# Altium footprint library DYS080_V5.PcbLib: 35 footprints (part 2 of 3)
Each footprint in its own frame and in the unit in brackets; x right, y up, seen from the top. Pads: shape width x height; smd on the part's side, far side on the other; paste and mask are expansions set on the pad; w line width, h text height; cw(c..) or ccw(c..) is an arc to the next point about the centre after c.
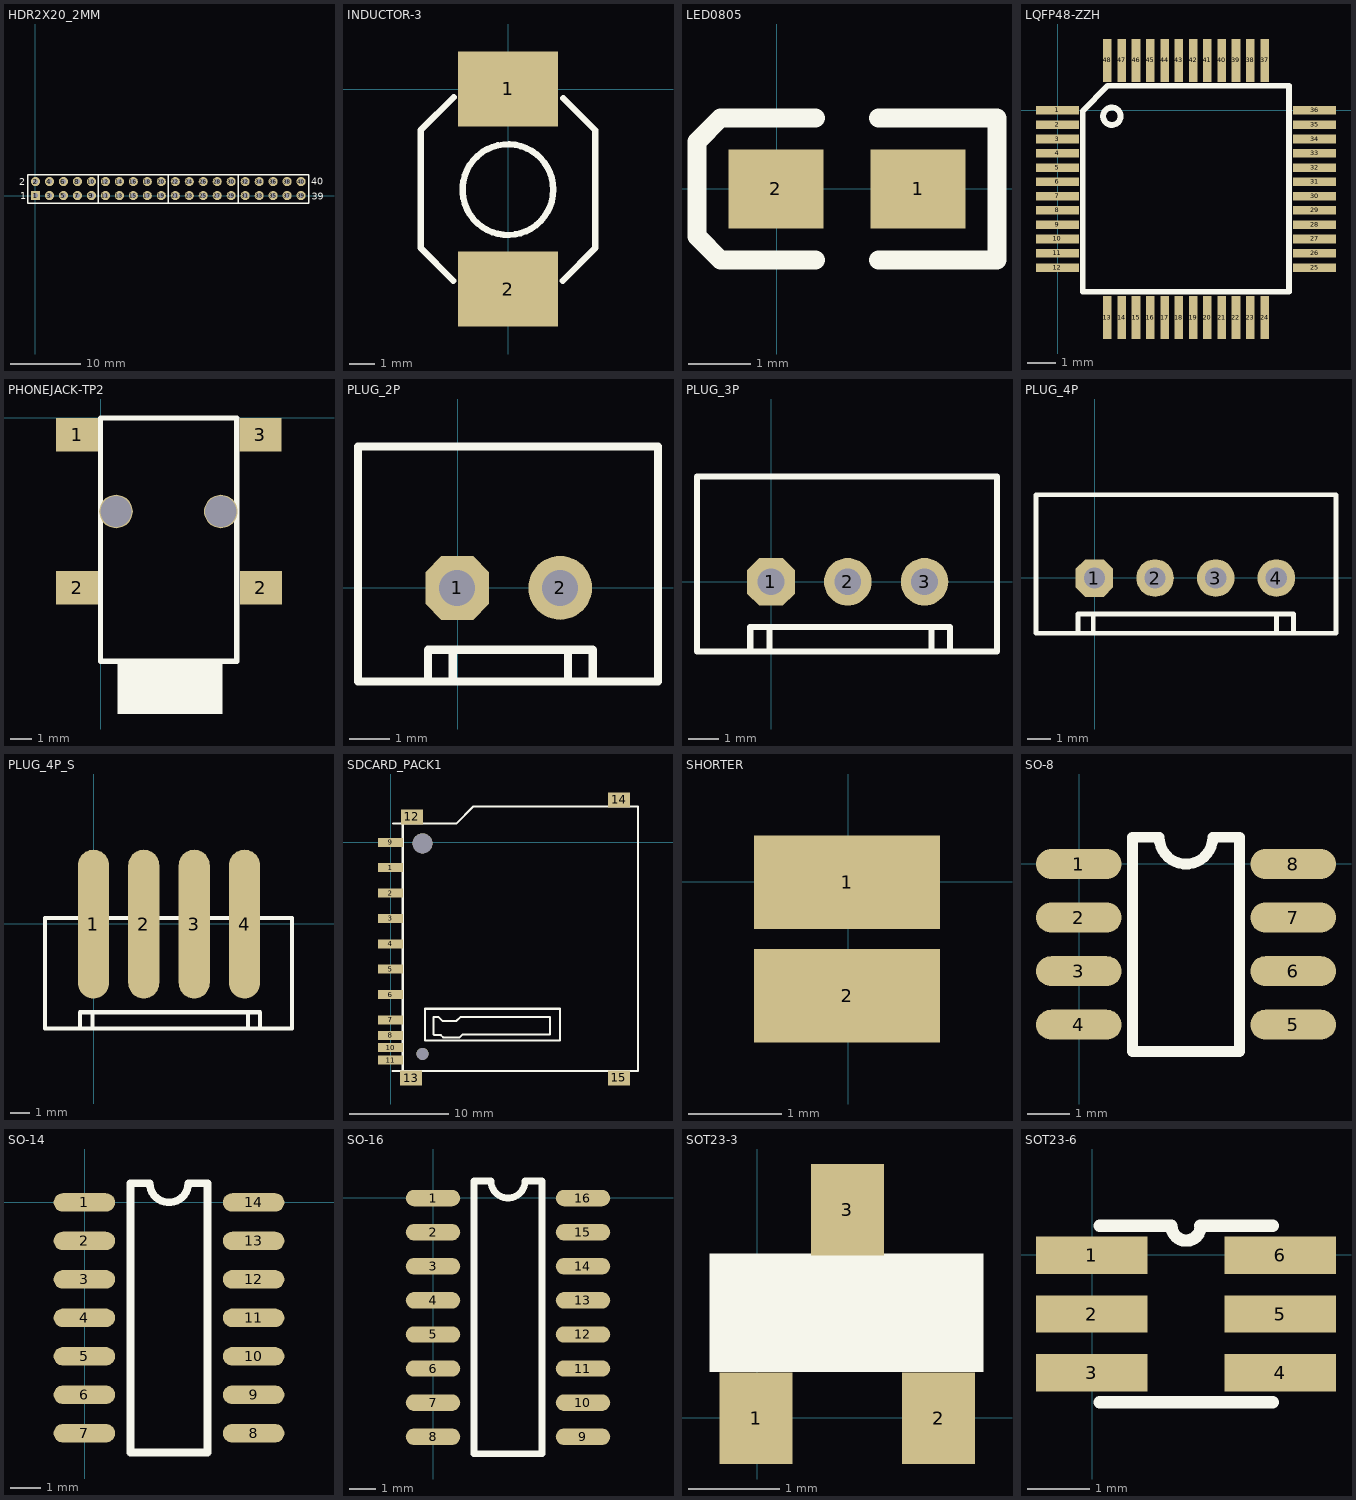
[diagram p1: the footprints below, top view; thin cyan lines are the x and y axes]

## HDR2X20_2MM [mm]
pads (40):
  rect 1.3x1.3 hole 0.75: 1(0.01,-0.005)
  round 1.3 hole 0.75: 2(0.01,1.995) 3(2.01,-0.005) 4(2.01,1.995) 5(4.01,-0.005) 6(4.01,1.995) 7(6.01,-0.005) 8(6.01,1.995) 9(8.01,-0.005) 10(8.01,1.995) 11(10.01,-0.005) 12(10.01,1.995) 13(12.01,-0.005) 14(12.01,1.995) 15(14.01,-0.005) 16(14.01,1.995) 17(16.01,-0.005) 18(16.01,1.995) 19(18.01,-0.005) 20(18.01,1.995) 21(20.01,-0.005) 22(20.01,1.995) 23(22.01,-0.005) 24(22.01,1.995) 25(24.01,-0.005) 26(24.01,1.995) 27(26.01,-0.005) 28(26.01,1.995) 29(28.01,-0.005) 30(28.01,1.995) 31(30.01,-0.005) 32(30.01,1.995) 33(32.01,-0.005) 34(32.01,1.995) 35(34.01,-0.005) 36(34.01,1.995) 37(36.01,-0.005) 38(36.01,1.995) 39(38.01,-0.005) 40(38.01,1.995)
Top Overlay:
  lines w0.2: 9.002,-1.021 9.002,2.916 ; 19.009,-1.072 19.009,2.916 ; 28.991,-1.097 28.991,2.89 ; -1.108,-1.097 -1.108,2.967 39.1,2.967 39.1,-1.097 -1.108,-1.097
  text "40" at 39.431,1.544 h1.02
  text "39" at 39.558,-0.615 h1.02
  text "2" at -2.352,1.443 h1.02
  text "1" at -2.2,-0.564 h1.02

## INDUCTOR-3 [mm]
pads (2):
  rect 4x3 smd: 1(-0.011,0.005) 2(-0.011,-8.025)
Top Overlay:
  circle w0.254: c-0.015,-4.035 r1.819
  lines w0.254: -2.201,-7.685 -3.511,-6.375 -3.511,-1.645 -2.181,-0.335 ; 2.179,-7.685 3.489,-6.375 3.489,-1.655 2.199,-0.365

## LED0805 [mil]
pads (2):
  rect 60x50 smd: 1(89.55,-0.18) 2(-0.45,-0.18)
Top Overlay:
  lines w12: 24.55,-45.18 -35.45,-45.18 -50.45,-30.18 -50.45,29.82 -35.45,44.82 24.55,44.82 ; 64.55,-45.18 139.55,-45.18 139.55,44.82 64.55,44.82

## LQFP48-ZZH [mm]
pads (48):
  rect 1.5x0.3 smd: 1(-0.011,-0.005) 2(-0.011,-0.505) 3(-0.011,-1.005) 4(-0.011,-1.505) 5(-0.011,-2.005) 6(-0.011,-2.505) 7(-0.011,-3.005) 8(-0.011,-3.505) 9(-0.011,-4.005) 10(-0.011,-4.505) 11(-0.011,-5.005) 12(-0.011,-5.505) 25(8.989,-5.505) 26(8.989,-5.005) 27(8.989,-4.505) 28(8.989,-4.005) 29(8.989,-3.505) 30(8.989,-3.005) 31(8.989,-2.505) 32(8.989,-2.005) 33(8.989,-1.505) 34(8.989,-1.005) 35(8.989,-0.505) 36(8.989,-0.005)
  rect 0.3x1.5 smd: 13(1.739,-7.255) 14(2.239,-7.255) 15(2.739,-7.255) 16(3.239,-7.255) 17(3.739,-7.255) 18(4.239,-7.255) 19(4.739,-7.255) 20(5.239,-7.255) 21(5.739,-7.255) 22(6.239,-7.255) 23(6.739,-7.255) 24(7.239,-7.255) 37(7.239,1.745) 38(6.739,1.745) 39(6.239,1.745) 40(5.739,1.745) 41(5.239,1.745) 42(4.739,1.745) 43(4.239,1.745) 44(3.739,1.745) 45(3.239,1.745) 46(2.739,1.745) 47(2.239,1.745) 48(1.739,1.745)
Top Overlay:
  circle w0.203: c1.893,-0.208 r0.306
  lines w0.2: 0.878,-6.355 8.091,-6.355 8.091,0.859 1.741,0.859 0.878,-0.03 0.878,-6.355

## PHONEJACK-TP2 [mm]
pads (6):
  rect 2x1.6 smd: 1(-1.129,-0.817) 2(-1.129,-8.107) 2(7.634,-8.107) 3(7.609,-0.817)
  round 1.6 hole 1.5: ""(0.725,-4.468) ""(5.725,-4.468)
Top Overlay:
  region: 5.807,-11.627 0.807,-11.627 0.807,-14.127 5.807,-14.127
  lines w0.254: -0.011,-11.605 -0.011,-0.005 6.489,-0.005 6.489,-11.605 -0.011,-11.605

## PLUG_2P [mil]
pads (2):
  oct 62x62 hole 35: 1(-0.45,-0.18)
  round 62 hole 35: 2(99.55,-0.18)
Top Overlay:
  lines w8: -28.79,-91.18 -28.79,-60.18 131.21,-60.18 131.21,-91.18 ; -4.79,-91.18 -4.79,-60.18 ; 107.21,-91.18 107.21,-63.18 ; -96.79,-91.18 194.55,-91.18 194.55,137.17 -96.79,137.17 -96.79,-91.18

## PLUG_3P [mil]
pads (3):
  oct 62x62 hole 35: 1(-0.45,-0.18)
  round 62 hole 35: 2(99.55,-0.18) 3(199.55,-0.18)
Top Overlay:
  lines w8: -27.45,-90.18 -27.45,-59.18 232.55,-59.18 232.55,-90.18 ; -2.45,-90.18 -2.45,-59.18 ; 208.55,-90.18 208.55,-62.18 ; -96.79,-91.18 293.89,-91.18 293.89,137.17 -96.79,137.17 -96.79,-91.18

## PLUG_4P [mil]
pads (4):
  oct 62x62 hole 35: 1(-0.45,-0.18)
  round 62 hole 35: 2(99.55,-0.18) 3(199.55,-0.18) 4(299.55,-0.18)
Top Overlay:
  lines w8: -27.45,-90.18 -27.45,-59.18 327.55,-59.18 327.55,-89.18 ; -2.45,-90.18 -2.45,-59.18 ; 299.55,-90.18 299.55,-62.18 ; -96.79,-91.18 -96.79,137.17 397.89,137.17 397.89,-91.18 -96.79,-91.18

## PLUG_4P_S [mm]
pads (4):
  oval 1.57x7.5 smd: 1(-0.011,-0.005) 2(2.529,-0.005) 3(5.069,-0.005) 4(7.609,-0.005)
Top Overlay:
  lines w0.203: -0.697,-5.237 -0.697,-4.45 8.396,-4.45 8.396,-5.237 ; -0.062,-5.237 -0.062,-4.45 ; 7.786,-5.237 7.786,-4.526 ; -2.458,-5.262 10.005,-5.262 10.005,0.309 -2.458,0.309 -2.458,-5.262

## SDCARD_PACK1 [mm]
pads (17):
  rect 2.5x0.9 smd: 1(-0.011,-2.545) 2(-0.011,-5.085) 3(-0.011,-7.625) 4(-0.011,-10.165) 5(-0.011,-12.705) 6(-0.011,-15.245) 7(-0.011,-17.785) 8(-0.011,-19.334) 9(-0.011,-0.005) 10(-0.011,-20.553) 11(-0.011,-21.798)
  rect 2.2x1.5 smd: 12(2.122,2.535) 13(2.046,-23.601) 14(22.874,4.237) 15(22.849,-23.576)
  round 1.2 hole 1.2: ""(3.189,-21.188)
  round 2 hole 2: ""(3.189,-0.106)
Top Overlay:
  lines w0.203: 0.192,-22.915 24.754,-22.89 24.754,3.602 8.288,3.602 6.561,1.875 1.208,1.875 ; 0.217,1.875 1.208,1.875 ; 1.208,-22.915 1.208,1.875 ; 3.443,-19.842 16.93,-19.842 16.93,-16.667 3.443,-16.667 3.443,-19.842 ; 4.281,-19.232 4.357,-19.309 5.018,-19.309 5.246,-19.537 6.897,-19.537 7.177,-19.258 15.965,-19.258 15.965,-17.48 6.999,-17.48 6.593,-17.886 5.17,-17.886 4.764,-17.48 4.281,-17.48 4.281,-19.232

## SHORTER [mm]
pads (2):
  rect 2x1 smd: 1(-0.011,-0.005) 2(-0.011,-1.224)

## SO-8 [mil]
pads (8):
  oval 80x28 smd: 1(-0.45,-0.18) 2(-0.45,-50.18) 3(-0.45,-100.18) 4(-0.45,-150.18) 5(199.55,-150.18) 6(199.55,-100.18) 7(199.55,-50.18) 8(199.55,-0.18)
Top Overlay:
  lines w10: 71.55,24.82 49.55,24.82 49.55,-175.18 149.55,-175.18 149.55,24.82 124.55,24.82 cw(c99.55,24.82) 74.55,24.82

## SO-14 [mil]
pads (14):
  oval 80x24 smd: 1(-0.45,-0.18) 2(-0.45,-50.18) 3(-0.45,-100.18) 4(-0.45,-150.18) 5(-0.45,-200.18) 6(-0.45,-250.18) 7(-0.45,-300.18) 8(219.55,-300.18) 9(219.55,-250.18) 10(219.55,-200.18) 11(219.55,-150.18) 12(219.55,-100.18) 13(219.55,-50.18) 14(219.55,-0.18)
Top Overlay:
  lines w10: 59.55,-325.18 59.55,24.82 84.55,24.82 ccw(c109.55,24.82) 134.55,24.82 159.55,24.82 159.55,-325.18 59.55,-325.18

## SO-16 [mil]
pads (16):
  oval 80x24 smd: 1(-0.45,-0.18) 2(-0.45,-50.18) 3(-0.45,-100.18) 4(-0.45,-150.18) 5(-0.45,-200.18) 6(-0.45,-250.18) 7(-0.45,-300.18) 8(-0.45,-350.18) 9(219.55,-350.18) 10(219.55,-300.18) 11(219.55,-250.18) 12(219.55,-200.18) 13(219.55,-150.18) 14(219.55,-100.18) 15(219.55,-50.18) 16(219.55,-0.18)
Top Overlay:
  lines w10: 59.55,-375.18 159.55,-375.18 159.55,24.82 134.55,24.82 cw(c109.55,24.82) 84.55,24.82 59.55,24.82 59.55,-375.18

## SOT23-3 [mm]
pads (3):
  rect 0.8x1 smd: 1(-0.011,-0.005) 2(1.989,-0.005) 3(0.989,2.281)
Top Overlay:
  rectangle: -0.519,0.503 2.481,1.803

## SOT23-6 [mm]
pads (6):
  rect 1.8x0.6 smd: 1(-0.011,-0.005) 2(-0.011,-0.955) 3(-0.011,-1.905) 4(3.037,-1.905) 5(3.037,-0.955) 6(3.037,-0.005)
Top Overlay:
  lines w0.2: 0.114,-2.38 2.916,-2.38 ; 0.114,0.47 1.259,0.47 ; 1.277,0.47 ccw(c1.515,0.47) 1.752,0.47 ; 1.741,0.47 2.916,0.47